# Altium footprint library DIP-18 DCR.PcbLib: 1 footprints
Each footprint in its own frame and in the unit in brackets; x right, y up, seen from the top. Pads: shape width x height; smd on the part's side, far side on the other; paste and mask are expansions set on the pad; w line width, h text height; cw(c..) or ccw(c..) is an arc to the next point about the centre after c.
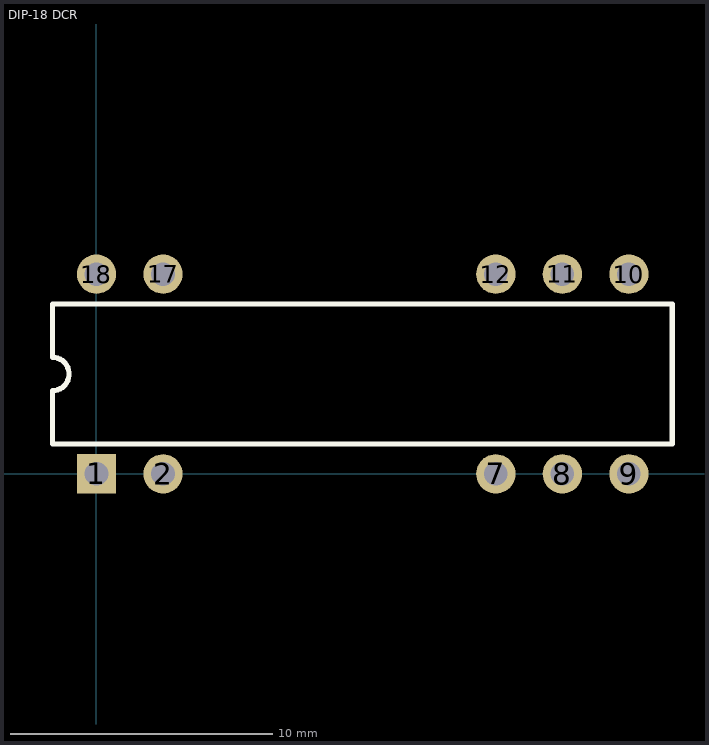
[diagram p0: the footprint, top view; thin cyan lines are the x and y axes]

## DIP-18 DCR [mm]
pads (10):
  rect 1.5x1.5 hole 0.9: 1(0,0)
  round 1.5 hole 0.9: 2(2.54,0) 7(15.24,0) 8(17.78,0) 9(20.32,0) 10(20.32,7.62) 11(17.78,7.62) 12(15.24,7.62) 17(2.54,7.62) 18(0,7.62)
Top Overlay:
  lines w0.2: -1.68,1.143 21.971,1.143 21.971,6.477 -1.68,6.477 ; -1.68,1.16 -1.68,3.175 ccw(c-1.68,3.81) -1.68,4.445 -1.68,6.46